# Altium schematic symbol library CHOCO_KEYBOARD.SchLib: 18 symbols
Pins are listed as number, name and electrical type; pins without a type are passive.

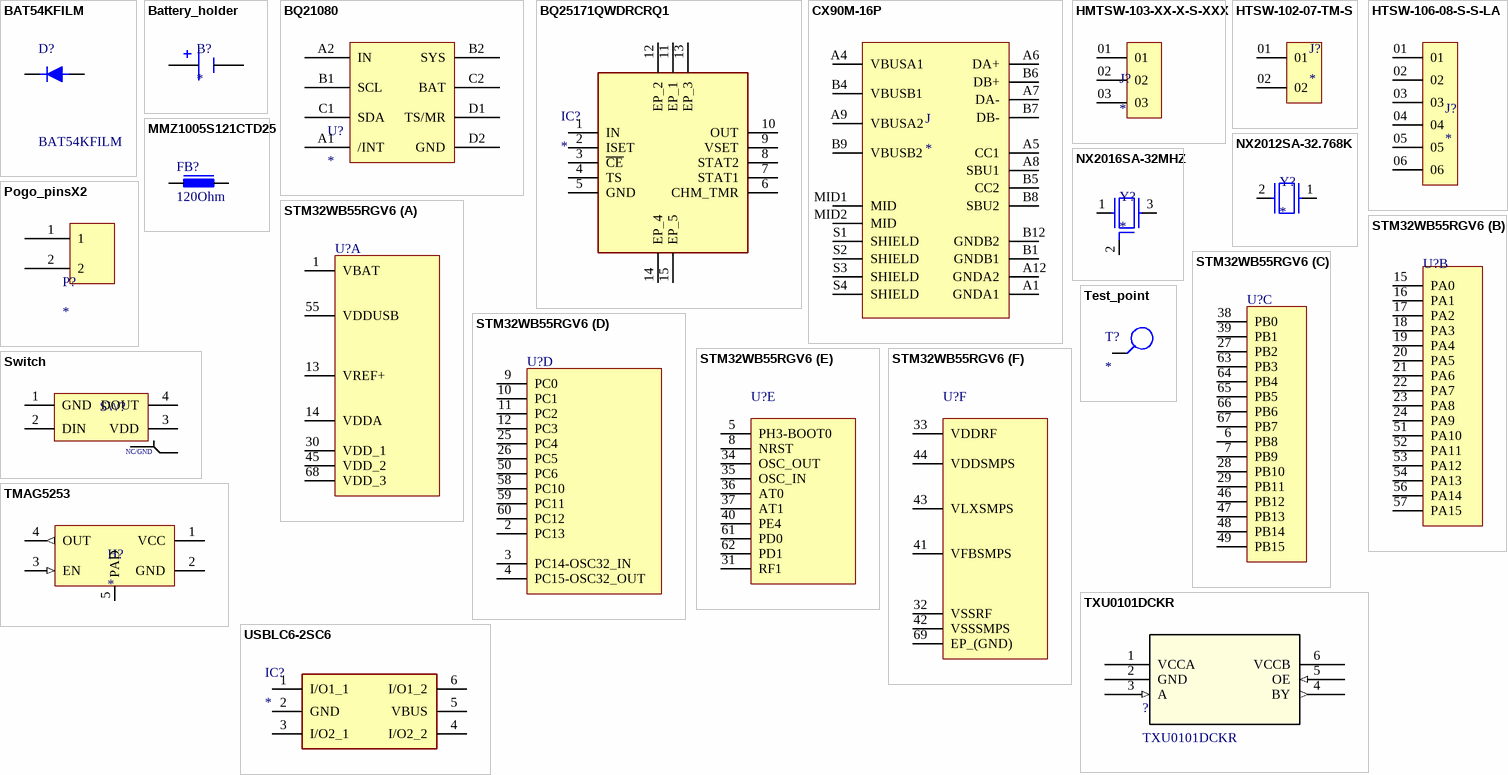
[diagram p0: symbols BAT54KFILM to USBLC6-2SC6]

## BAT54KFILM
designator D?
BAT54KFILM, Schottky Diode,  0.3A max, 40V 5ns, 2-Pin, SOD-523; Manufacturer_Name: STMicroelectronics; Geometry.Height: 0.7mm; Mouser Part Number: 511-BAT54KFILM; Mouser Price/Stock: https://www.mouser.co.uk/ProductDetail/STMicroelectronics/BAT54KFILM?qs=jZi1jxfVU95Y9ce6l3OT%252BA%3D%3D; Manufacturer_Part_Number: BAT54KFILM; Datasheet Link: http://www.st.com/web/en/resource/technical/document/datasheet/CD00001322.pdf
footprint SODFL1608X70N
pins: 1 K, 2 A

## Battery_holder
designator B?
li-ion 14500 battery holder
footprint battery connection
pins: 1 POS, 2 NEG

## BQ21080
designator U?
Battery Managment IC
footprint IC_BQ25180YBGR
pins: A1 /INT, A2 IN, B1 SCL, B2 SYS, C1 SDA, C2 BAT, D1 TS/MR, D2 GND

## BQ25171QWDRCRQ1
designator IC?
Integrated Circuit; Manufacturer_Name: Texas Instruments; Manufacturer_Part_Number: BQ25171QWDRCRQ1; Datasheet Link: https://www.ti.com/lit/gpn/bq25171-q1?HQS=ti-null-null-sf-df-pf-sep-wwe&DCM=yes; Height: 1mm; Mouser Part Number: 595-BQ25171QWDRCRQ1; Mouser Price/Stock: https://www.mouser.co.uk/ProductDetail/Texas-Instruments/BQ25171QWDRCRQ1?qs=iLbezkQI%252Bsj%2FeXAThzGU%252Bg%3D%3D; Arrow Part Number: BQ25171QWDRCRQ1; Arrow Price/Stock: https://www.arrow.com/en/products/bq25171qwdrcrq1/texas-instruments?region=nac
footprint BQ25171QWDRCRQ1
pins: 1 IN, 2 ISET, 3 ~{CE}, 4 TS, 5 GND, 6 CHM_TMR, 7 STAT1, 8 STAT2, 9 VSET, 10 OUT, 11 EP_1, 12 EP_2, 13 EP_3, 14 EP_4, 15 EP_5

## CX90M-16P
designator J
USB-C _USB TYPE-C_ USB 3.1 _USB 3.1 Gen 2, Superspeed+_ Receptacle Connector 24 _16+8 Dummy_ Position Board Edge, Cutout; Surface Mount; Through Hole, Right Angle; MP: CX90M-16P; MF: Hirose Electric Co Ltd; Price: None; Package: None; Availability: Unavailable; SnapEDA_Link: https://www.snapeda.com/parts/CX90M-16P/Hirose%20Electric%20Co%20Ltd/view-part/3218310/?ref=snap; Value: *
footprint HRS_CX90M-16P
pins: A1 GNDA1 (power), A4 VBUSA1 (power), A5 CC1, A6 DA+, A7 DA-, A8 SBU1, A9 VBUSA2 (power), A12 GNDA2 (power), B1 GNDB1 (power), B4 VBUSB1 (power), B5 CC2, B6 DB+, B7 DB-, B8 SBU2, B9 VBUSB2 (power), B12 GNDB2 (power), MID1 MID, MID2 MID, S1 SHIELD, S2 SHIELD, S3 SHIELD, S4 SHIELD

## HMTSW-103-XX-X-S-XXX
designator J?
Headers & Wire Housings; MP: HMTSW-103-13-L-S-100; MF: Samtec; Package: None; SnapEDA_Link: https://www.snapeda.com/parts/HMTSW-103-13-L-S-100/Samtec/view-part/?ref=snap; Value: *; Availability: In Stock; Price: None; Check_prices: https://www.snapeda.com/parts/HMTSW-103-13-L-S-100/Samtec/view-part/?ref=eda
footprint SAMTEC_HMTSW-103-XX-X-S-XXX
pins: 01, 02, 03

## HTSW-102-07-TM-S
designator J?
HEADER, 2 CONTACTS, 1 ROW, THROUGH HOLE, 2.54 MM; Connector Systems:Board-to-Board; Pitch Spacing:2.54mm; No. of Rows:1Rows; No. of Contacts:2Contacts; Contact Termination Type:Through Hole; Product Range:HTSW Series; Gender:Header RoHS Compliant: Yes; MP: HTSW10207TMS; MF: Samtec; SnapEDA_Link: https://www.snapeda.com/parts/HTSW10207TMS/Samtec/view-part/?ref=snap; Value: *; Purchase-URL: https://pricing.snapeda.com/search/part/HTSW10207TMS/?ref=eda; Availability: In Stock; Check_prices: https://www.snapeda.com/parts/HTSW10207TMS/Samtec/view-part/?ref=eda; Package: None; Price: None
footprint SAMTEC_HTSW-102-07-TM-S
pins: 01, 02

## HTSW-106-08-S-S-LA
designator J?
HEADER, 6 CONTACTS, 1 ROW, THROUGH HOLE, 2.54 MM; Connector Systems:Board-to-Board; Pitch Spacing:2.54mm; No. of Rows:1Rows; No. of Contacts:6Contacts; Contact Termination Type:Through Hole Right Angle; Product Range:HTSW Series RoHS Compliant: Yes; MP: HTSW10608SSLA; MF: Samtec; Purchase-URL: https://pricing.snapeda.com/search/part/HTSW10608SSLA/?ref=eda; Package: None; Check_prices: https://www.snapeda.com/parts/HTSW10608SSLA/Samtec/view-part/?ref=eda; Price: None; SnapEDA_Link: https://www.snapeda.com/parts/HTSW10608SSLA/Samtec/view-part/?ref=snap; Availability: In Stock; Value: *
footprint SAMTEC_HTSW-106-08-S-S-LA
pins: 01, 02, 03, 04, 05, 06

## MMZ1005S121CTD25
designator FB?, comment 120Ohm
Ferrite Bead; MF: Tai Tech; MP: FCM1608KF-601T05; SnapEDA_Link: https://www.snapeda.com/parts/FCM1608KF-601T05/Tai+Tech/view-part/?ref=snap; Package: None; Value: *; Check_prices: https://www.snapeda.com/parts/FCM1608KF-601T05/Tai+Tech/view-part/?ref=eda
footprint BEADC1005X50N
pins: 1, 2

## NX2012SA-32.768K
designator Y?
Crystal or Oscillator; Manufacturer_Name: NDK; Manufacturer_Part_Number: NX2012SA-32.768K-STD-MUB-1; Datasheet Link: https://www.mouser.de/datasheet/2/905/c_NX2012SA-STD-MUB-1_e-1317508.pdf; Height: 0.6mm; Mouser Part Number: 344-NX2012SA32768K1; Mouser Price/Stock: https://www.mouser.co.uk/ProductDetail/NDK/NX2012SA-32.768K-STD-MUB-1?qs=55YtniHzbhA%252B6%2Fl1MwFZaQ%3D%3D
footprint NX2012SA32768KSTDMUB1
pins: 1 CRYSTAL_1, 2 CRYSTAL_2

## NX2016SA-32MHZ
designator Y?
Crystal or Oscillator; Manufacturer_Name: NDK; Manufacturer_Part_Number: NX2016SA-26MHZ-EXS00A-CS06025; Datasheet Link: https://datasheet.datasheetarchive.com/originals/distributors/Datasheets_SAMA/8da4d094c01ffba0c34ffc4b8a2d69e9.pdf; Mouser Part Number: 344-NX2016SA26S06025; Mouser Price/Stock: https://www.mouser.co.uk/ProductDetail/NDK/NX2016SA-26MHZ-EXS00A-CS06025?qs=w%2Fv1CP2dgqrdkfe8%2Fku9TQ%3D%3D
footprint NX2016SA32MEXS00ACS06465
pins: 1 CRYSTAL_1, 2 GND, 3 CRYSTAL_2

## Pogo_pinsX2
designator P?
footprint pogo_2_pins_amgled
pins: 1, 2

## STM32WB55RGV6
designator U?  (value not drawn)
footprint QFN40P800X800X100-69L-D
part A pins: 1 VBAT, 13 VREF+, 14 VDDA, 30 VDD_1, 45 VDD_2, 55 VDDUSB, 68 VDD_3
part B pins: 15 PA0, 16 PA1, 17 PA2, 18 PA3, 19 PA4, 20 PA5, 21 PA6, 22 PA7, 23 PA8, 24 PA9, 51 PA10, 52 PA11, 53 PA12, 54 PA13, 56 PA14, 57 PA15
part C pins: 6 PB8, 7 PB9, 27 PB2, 28 PB10, 29 PB11, 38 PB0, 39 PB1, 46 PB12, 47 PB13, 48 PB14, 49 PB15, 63 PB3, 64 PB4, 65 PB5, 66 PB6, 67 PB7
part D pins: 2 PC13, 3 PC14-OSC32_IN, 4 PC15-OSC32_OUT, 9 PC0, 10 PC1, 11 PC2, 12 PC3, 25 PC4, 26 PC5, 50 PC6, 58 PC10, 59 PC11, 60 PC12
part E pins: 5 PH3-BOOT0, 8 NRST, 31 RF1, 34 OSC_OUT, 35 OSC_IN, 36 AT0, 37 AT1, 40 PE4, 61 PD0, 62 PD1
part F pins: 32 VSSRF, 33 VDDRF, 41 VFBSMPS, 42 VSSSMPS, 43 VLXSMPS, 44 VDDSMPS, 69 EP_(GND)

## Switch
designator SW?  (value not drawn)
Gateron Magnetic Jade Switch
footprint Switch
pins: 1 GND, 2 DIN, 3 VDD, 4 DOUT, 5 NC/GND

## Test_point
designator T?
footprint Test_point
pins: 0

## TMAG5253
designator H?
Low-power linear Hall-effect sensor with enable pin in ultrasmall X2SON package; MF: Texas Instruments; MP: TMAG5253BA3IQDMRR; SnapEDA_Link: https://www.snapeda.com/parts/TMAG5253BA3IQDMRR/Texas+Instruments/view-part/?ref=snap; Package: XFDFN-4 Texas Instruments; Value: *; Check_prices: https://www.snapeda.com/parts/TMAG5253BA3IQDMRR/Texas+Instruments/view-part/?ref=eda
footprint IC_TMAG5253BA3IQDMRR
pins: 1 VCC (power), 2 GND (power), 3 EN (in), 4 OUT (out), 5 PAD

## TXU0101DCKR
designator ?
footprint TXU0101DCKR
pins: 1 VCCA (power), 2 GND (power), 3 A (in), 4 BY (out), 5 OE (in), 6 VCCB (power)

## USBLC6-2SC6
designator IC?
Integrated Circuit; Manufacturer_Name: STMicroelectronics; Manufacturer_Part_Number: USBLC6-2SC6; Datasheet Link: http://www.st.com/st-web-ui/static/active/en/resource/technical/document/datasheet/CD00050750.pdf; Height: 1.45mm; Mouser Part Number: 511-USBLC6-2SC6; Mouser Price/Stock: https://www.mouser.co.uk/ProductDetail/STMicroelectronics/USBLC6-2SC6?qs=po45yt2pPpu%2FhNIlwQdTlg%3D%3D; Arrow Part Number: USBLC6-2SC6; Arrow Price/Stock: https://www.arrow.com/en/products/usblc6-2sc6/stmicroelectronics?utm_currency=USD&region=europe
footprint SOT95P280X145-6N
pins: 1 I/O1_1, 2 GND, 3 I/O2_1, 4 I/O2_2, 5 VBUS, 6 I/O1_2